# EAGLE library part DG409LDQ-T1-E3 (library Vishay_By_element14_Batch_1)
Precision 8-Ch/Dual 4-Ch Low Voltage Analog Multiplexers
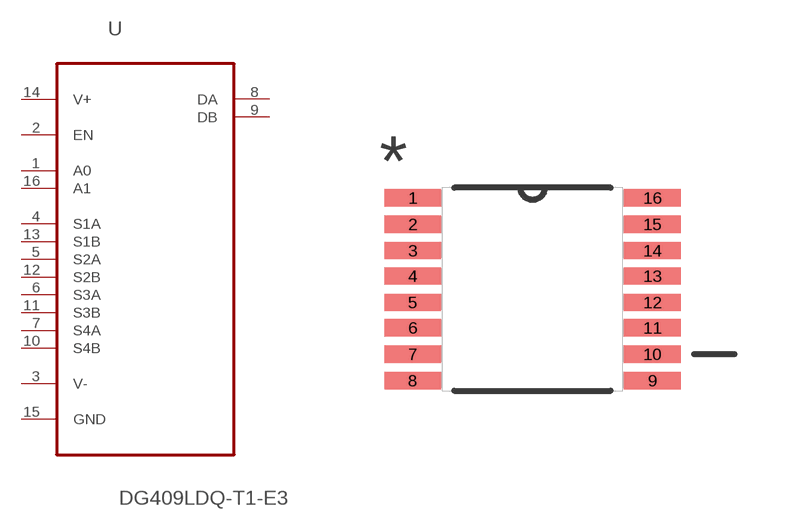
[diagram p37: symbol with the pads of SOP65P640X120-16N; footprint SOP65P640X120-16N]

Designator prefix U

## DG409LDQ-T1-E3 (MPN: DG409LDQ-T1-E3; OC_FARNELL: -; OC_NEWARK: 06J4746; PACKAGE: TSSOP-16; SUPPLIER: VISHAY SILICONIX)  [SOP65P640X120-16N]
1  A0  in
2  EN  in
3  V-  pwr
4  S1A
5  S2A
6  S3A
7  S4A
8  DA  pas
9  DB  pas
10  S4B
11  S3B
12  S2B
13  S1B
14  V+  pwr
15  GND  pas
16  A1  in

## Footprint SOP65P640X120-16N (pad centres in mm)
smd 1.422 x 0.432: 1 -2.997,2.286; 2 -2.997,1.626; 3 -2.997,0.965; 4 -2.997,0.33; 5 -2.997,-0.33; 6 -2.997,-0.965; 7 -2.997,-1.626; 8 -2.997,-2.286; 9 2.997,-2.286; 10 2.997,-1.626; 11 2.997,-0.965; 12 2.997,-0.33; 13 2.997,0.33; 14 2.997,0.965; 15 2.997,1.626; 16 2.997,2.286